# Altium schematic symbol library CONNs.SchLib: 5 symbols
Pins are listed as number, name and electrical type; pins without a type are passive.

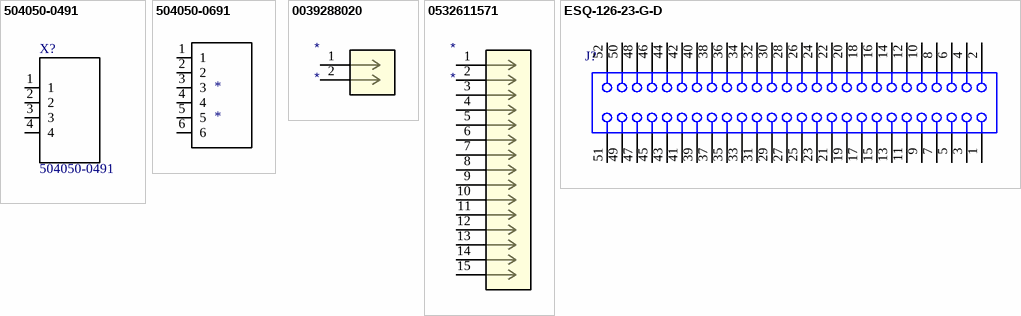
[diagram p0: symbols 504050-0491 to ESQ-126-23-G-D]

## 504050-0491
designator X?
Wire-To-Board Connector, Pico-Lock 504050 Series, Surface Mount, Header, 4, 1.5 mm; MF: Molex; Price: None; Package: None; Availability: Unavailable; MP: 504050-0491; SnapEDA_Link: https://www.snapeda.com/parts/504050-0491/Molex/view-part/?ref=snap; Value: *
footprint MOLEX_504050-0491
pins: 1, 2, 3, 4

## 504050-0691
designator *
Wire-To-Board Connector, Pico-Lock 504050 Series, Surface Mount, Header, 6, 1.5 mm
footprint MOLEX_504050-0691 (Molex connector to antenna)
pins: 1, 2, 3, 4, 5, 6

## 0039288020
designator *
Mini-Fit Jr. vertical header, 2 positions
footprint 0039288020
pins: 1 + (power) "GND", 2 - (power)

## 0532611571
designator *
Picoblade 1.25 mm wire-to-board connector, 15 circuits
footprint WM7632CT-ND (Molex PicoBlade 53261 15 Pos)
pins: 1 "GND", 2, 3, 4, 5, 6, 7, 8, 9, 10, 11, 12, 13, 14, 15

## ESQ-126-23-G-D
designator J?
PC/104(TM) Elevated Socket Strip, Through-hole, Vertical, -55 to 125 degC, 2.54 mm Pitch, 52-Pin, Female, RoHS; Manufacturer: Samtec; PartNumber: ESQ-126-23-G-D; Pitch: 2.54 mm; DatasheetVersion: F-214; PackageVersion: BZ, 9/1998; PackageReference: ESQ-126-23-X-D; PackageDescription: ESQ Strip ASM; Supplier 1: Newark; Supplier Part Number 1: 92P1348; Orientation: Vertical; RoHS: True; Temperature Range: -55 to 125 degC; Mounting Technology: Through-hole; ComponentLink1Description: Manufacturer URL; ComponentLink1URL: http://www.samtec.com; ComponentLink2Description: Datasheet; ComponentLink2URL: http://www.samtec.com/documents/webfiles/pdf/ESQ_TH.PDF; ComponentLink3Description: Package Specification; ComponentLink3URL: http://www.samtec.com/documents/webfiles/cpdf/ESQ-1XX-XX-X-X-XXX-XX-X-XX-MKT.pdf
footprint SSW-126-01-G-D (Elevated Socket, 2x26 Pins, Vertical, 2.54mm Pitch, Female)
pins: 1, 2, 3, 4, 5, 6, 7, 8, 9, 10, 11, 12, 13, 14, 15, 16, 17, 18, 19, 20, 21, 22, 23, 24, 25, 26, 27, 28, 29, 30, 31, 32, 33, 34, 35, 36, 37, 38, 39, 40, 41, 42, 43, 44, 45, 46, 47, 48, 49, 50, 51, 52